# EAGLE library part MCP3550 (library misc)
Low-Power, Single-Channel 22-Bit Delta-Sigma ADC
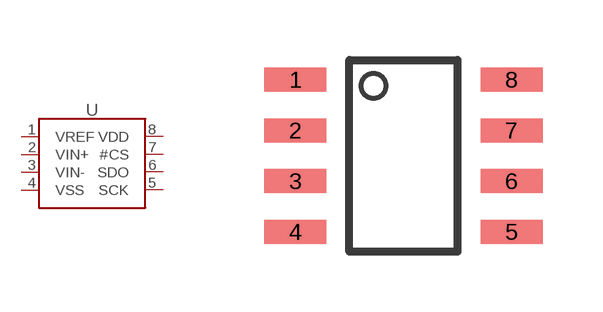
[diagram p17: symbol with the pads of SOIC8; footprint SOIC8]

Designator prefix -

## MCP3550 (MANF: Microchip Technology; MANF#: MCP3550-50E/SN)  [SOIC8]
1  VREF  pas
2  VIN+  pas
3  VIN-  pas
4  VSS  pas
5  SCK  in
6  SDO  out
7  #CS  in
8  VDD  pas

## Footprint SOIC8 (pad centres in mm)
https://www.ti.com/lit/ds/snvsaq5a/snvsaq5a.pdf?ts=1602424164509
smd 1.55 x 0.6: 1 -2.7,1.905; 2 -2.7,0.635; 3 -2.7,-0.635; 4 -2.7,-1.905; 5 2.7,-1.905; 6 2.7,-0.635; 7 2.7,0.635; 8 2.7,1.905